# Altium footprint library WCAP-FTBE.PcbLib: 21 footprints (part 2 of 2)
Each footprint in its own frame and in the unit in brackets; x right, y up, seen from the top. Pads: shape width x height; smd on the part's side, far side on the other; paste and mask are expansions set on the pad; w line width, h text height; cw(c..) or ccw(c..) is an arc to the next point about the centre after c.
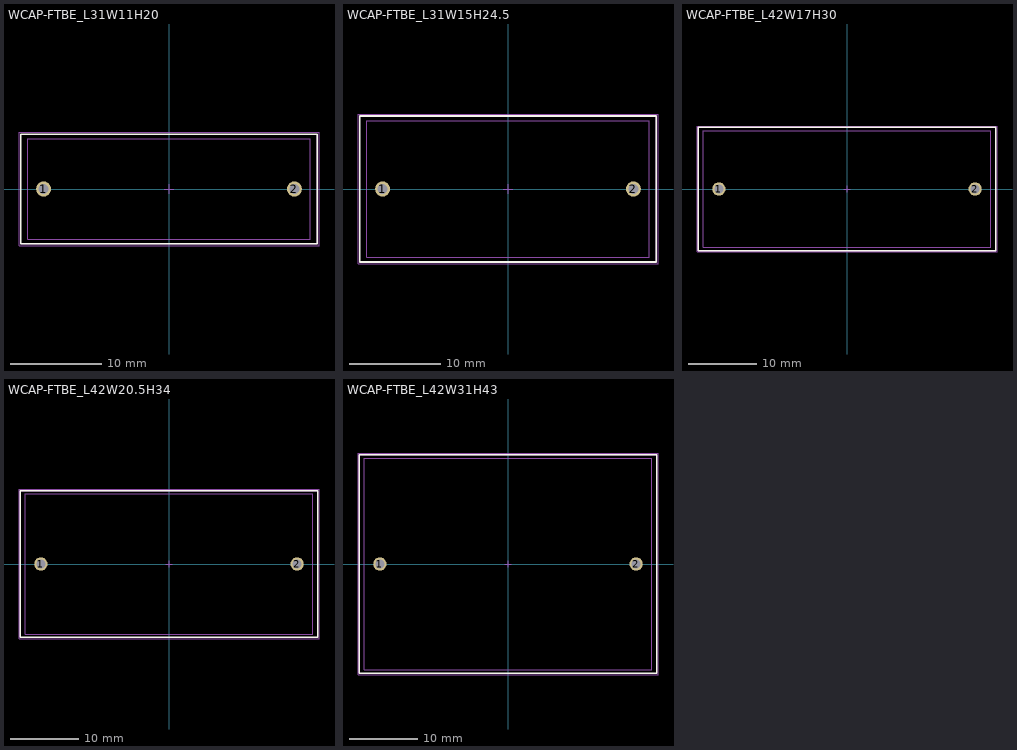
[diagram p1: the footprints below, top view; thin cyan lines are the x and y axes]

## WCAP-FTBE_L31W11H20 [mm] "THT Film Capacitors, body 31x11mm"
height 20
pads (2):
  round 1.65 hole 1.1: 1(-13.75,0) 2(13.75,0)
Top Overlay:
  lines w0.2: -16.25,-6 16.25,-6 16.25,6 -16.25,6 -16.25,-6
Top Assembly:
  lines w0.1: -16.25,-6 16.25,-6 16.25,6 -16.25,6 -16.25,-6
Top Designator:
  text ".Designator" at -3.647,-0.357 h1
Top 3D Body:
  lines w0.1: -15.5,-5.5 15.5,-5.5 15.5,5.5 -15.5,5.5 -15.5,-5.5
Top Courtyard:
  lines w0.05: -16.45,-6.2 16.45,-6.2 16.45,6.2 -16.45,6.2 -16.45,-6.2
Top Component Center:
  lines w0.1: -0.5,0 0.5,0 ; 0,-0.5 0,0.5
3D body "27,5x31x11x20.stp": height 20.2, standoff -3.8, extent -15.5,-5.501 15.5,5.5

## WCAP-FTBE_L31W15H24.5 [mm] "THT Film Capacitors, body 31x15mm"
height 24.5
pads (2):
  round 1.65 hole 1.1: 1(-13.75,0) 2(13.75,0)
Top Overlay:
  lines w0.2: -16.25,-8 -16.25,8 16.25,8 16.25,-8 -16.25,-8
Top Assembly:
  lines w0.1: -16.25,-8 -16.25,8 16.25,8 16.25,-8 -16.25,-8
Top Designator:
  text ".Designator" at -3.647,-0.357 h1
Top 3D Body:
  lines w0.1: -15.5,-7.5 -15.5,7.5 15.5,7.5 15.5,-7.5 -15.5,-7.5
Top Courtyard:
  lines w0.05: -16.45,-8.2 -16.45,8.2 16.45,8.2 16.45,-8.2 -16.45,-8.2
Top Component Center:
  lines w0.1: -0.5,0 0.5,0 ; 0,-0.5 0,0.5
3D body "27,5x31x15x24,5.stp": height 24.55, standoff -3.95, extent -15.5,-7.501 15.5,7.5

## WCAP-FTBE_L42W17H30 [mm] "THT Film Capacitors, body 42x17mm"
height 30
pads (2):
  round 1.95 hole 1.3: 1(-18.75,0) 2(18.75,0)
Top Overlay:
  lines w0.2: -21.75,-9 21.75,-9 21.75,9 -21.75,9 -21.75,-9
Top Assembly:
  lines w0.1: -21.75,-9 21.75,-9 21.75,9 -21.75,9 -21.75,-9
Top Designator:
  text ".Designator" at -3.647,-0.357 h1
Top 3D Body:
  lines w0.1: -21,-8.5 -21,8.5 21,8.5 21,-8.5 -21,-8.5
Top Courtyard:
  lines w0.05: -21.95,-9.2 21.95,-9.2 21.95,9.2 -21.95,9.2 -21.95,-9.2
Top Component Center:
  lines w0.1: -0.5,0 0.5,0 ; 0,-0.5 0,0.5
3D body "37,5x42x17x30.stp": height 30.05, standoff -3.95, extent -21,-8.5 21,8.5

## WCAP-FTBE_L42W20.5H34 [mm] "THT Film Capacitors, body 42x20.5mm"
height 34
pads (2):
  round 1.95 hole 1.3: 1(-18.75,0) 2(18.75,0)
Top Overlay:
  lines w0.2: -21.75,-10.75 -21.75,10.75 21.75,10.75 21.75,-10.75 -21.75,-10.75
Top Assembly:
  lines w0.1: -21.75,-10.75 -21.75,10.75 21.75,10.75 21.75,-10.75 -21.75,-10.75
Top Designator:
  text ".Designator" at -3.647,-0.357 h1
Top 3D Body:
  lines w0.1: -21,-10.25 21,-10.25 21,10.25 -21,10.25 -21,-10.25
Top Courtyard:
  lines w0.05: -21.95,-10.95 -21.95,10.95 21.95,10.95 21.95,-10.95 -21.95,-10.95
Top Component Center:
  lines w0.1: -0.5,0 0.5,0 ; 0,-0.5 0,0.5
3D body "37,5x42x20,5x34.stp": height 34.05, standoff -3.95, extent -21,-10.25 21,10.25

## WCAP-FTBE_L42W31H43 [mm] "THT Film Capacitors, body 42x31mm"
height 43
pads (2):
  round 1.95 hole 1.3: 1(-18.75,0) 2(18.75,0)
Top Overlay:
  lines w0.2: -21.75,-16 -21.75,16 21.75,16 21.75,-16 -21.75,-16
Top Assembly:
  lines w0.1: -21.75,-16 -21.75,16 21.75,16 21.75,-16 -21.75,-16
Top Designator:
  text ".Designator" at -3.647,-0.357 h1
Top 3D Body:
  lines w0.1: -21,-15.5 -21,15.5 21,15.5 21,-15.5 -21,-15.5
Top Courtyard:
  lines w0.05: -21.95,-16.2 -21.95,16.2 21.95,16.2 21.95,-16.2 -21.95,-16.2
Top Component Center:
  lines w0.1: -0.5,0 0.5,0 ; 0,-0.5 0,0.5
3D body "37,5x42x31x43.stp": height 43.05, standoff -3.95, extent -21,-15.5 21,15.5